# Altium footprint library NIXIE.PcbLib: 2 footprints
Each footprint in its own frame and in the unit in brackets; x right, y up, seen from the top. Pads: shape width x height; smd on the part's side, far side on the other; paste and mask are expansions set on the pad; w line width, h text height; cw(c..) or ccw(c..) is an arc to the next point about the centre after c.
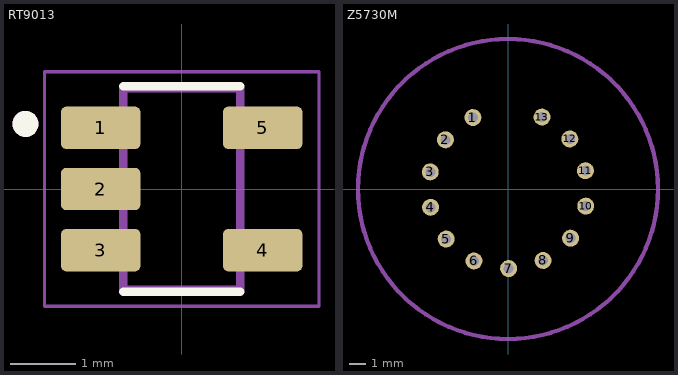
[diagram p0: the footprints below, top view; thin cyan lines are the x and y axes]

## RT9013 [mm]
pads (5):
  rrect25% 1.22x0.65 smd: 1(-1.245,0.94) 2(-1.245,0) 3(-1.245,-0.94) 4(1.245,-0.94) 5(1.245,0.94)
Top Overlay:
  circle w0.2: c-2.4,1 r0.1
  lines w0.127: -0.9,-1.579 0.9,-1.579 ; -0.9,1.579 0.9,1.579
Mechanical 13:
  circle w0.2: c-2.4,1 r0.1
  lines w0.127: -0.9,-1.55 0.9,-1.55 0.9,1.55 -0.9,1.55 -0.9,-1.55
Mechanical 15:
  lines w0.05: -2.11,-1.8 2.11,-1.8 2.11,1.8 -2.11,1.8 -2.11,-1.8

## Z5730M [mil]
pads (13):
  round 40 hole 23.62: 1(-82.84,168.76) 2(-147.86,116.11) 3(-183.6,40.45) 4(-182.97,-43.21) 5(-146.1,-118.32) 6(-80.3,-169.99) 7(1.41,-187.99) 8(82.84,-168.77) 9(147.86,-116.11) 10(183.6,-40.46) 11(182.97,43.2) 12(146.1,118.31) 13(80.29,169.99)
Bottom Overlay:
  circle w10: c0.55,-224.73 r2.24
Mechanical 15:
  circle w10: c0,0 r354.33